# Altium schematic symbol library kmilo17pet-LT_PMIC_LT.SchLib: 2252 symbols (part 74 of 124)
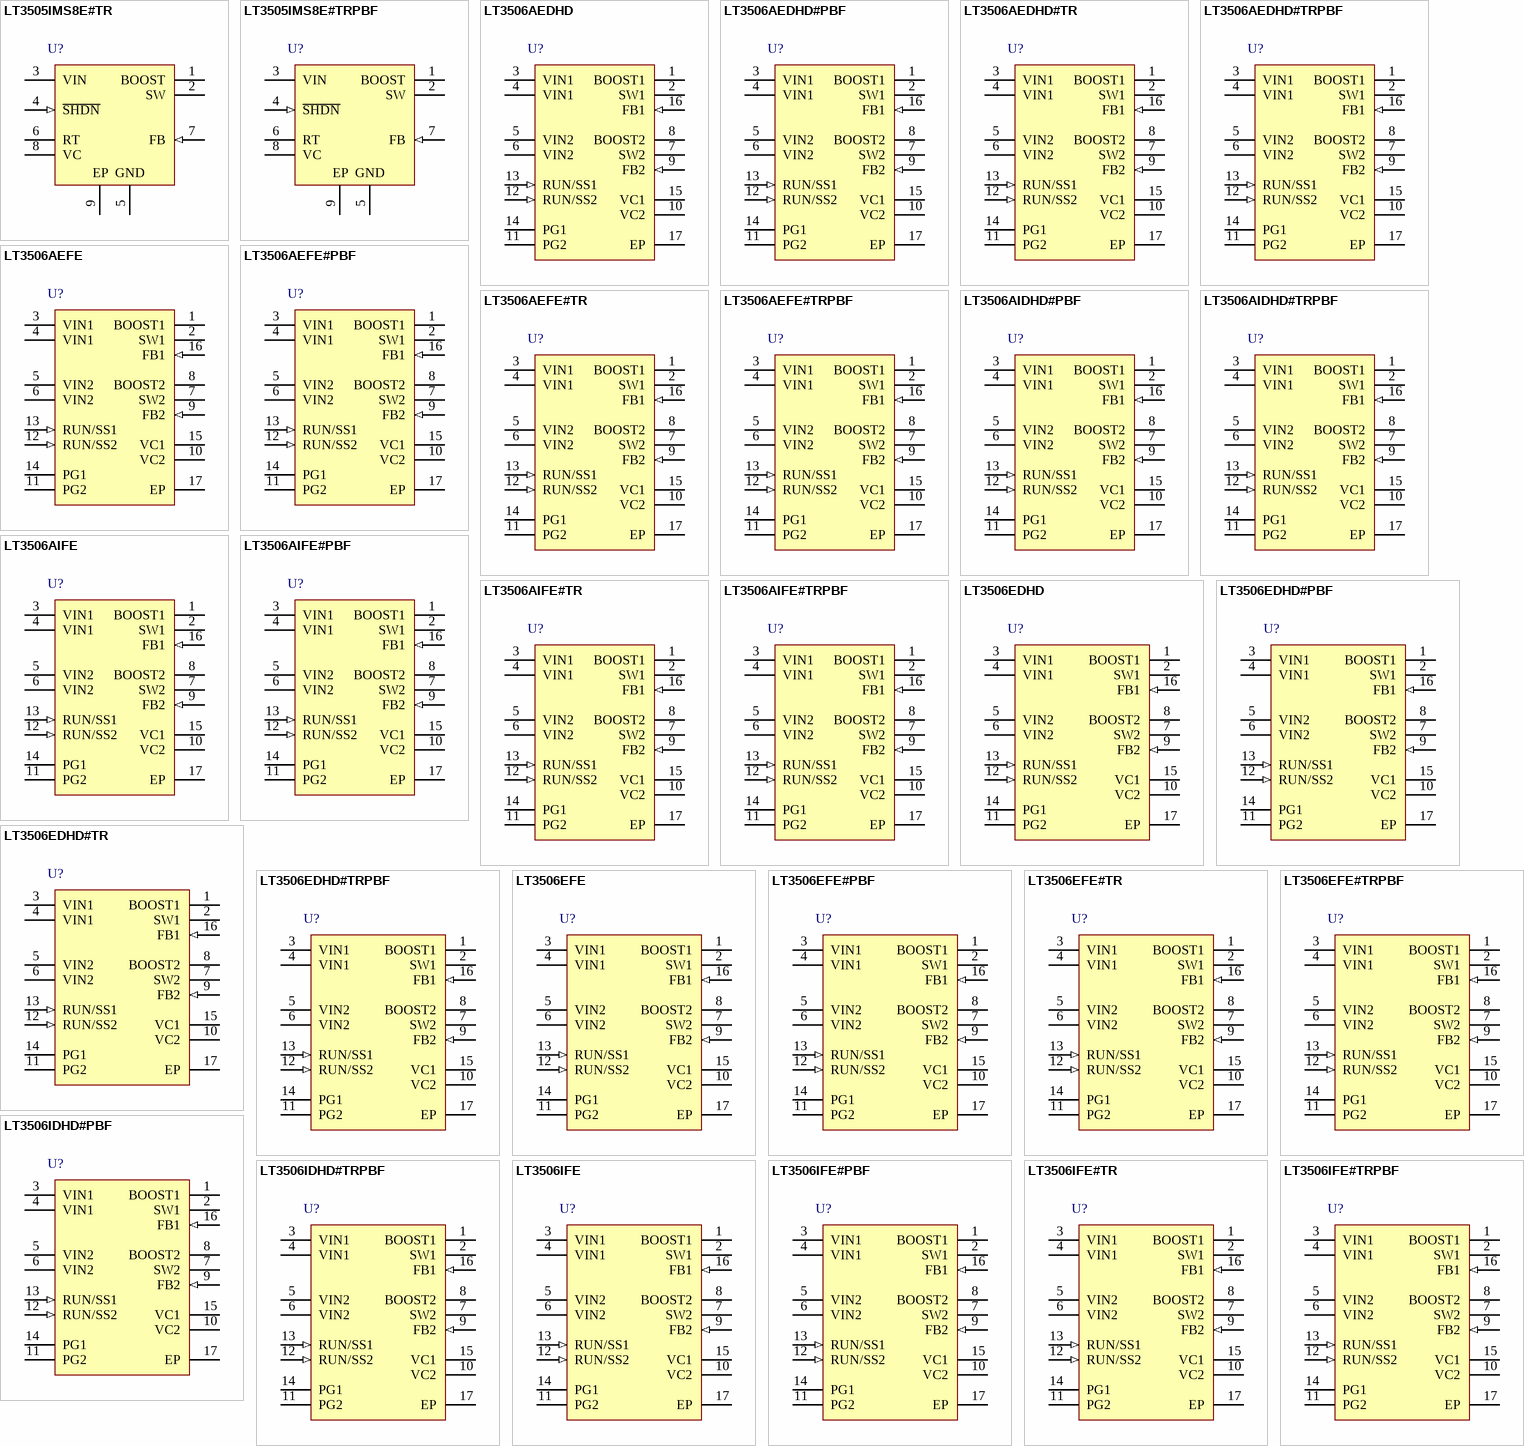
[diagram p144: symbols LT3505IMS8E#TR to LT3506IFE#TRPBF]

## LT3506AEFE#PBF
designator U?
Dual Monolithic 1.6 A Step-Down Switching Regulator, 16-pin SOP (FE-16-EPV-BA), -40 to 85 degC, Pb-Free; Manufacturer: Linear Technology; PartNumber: LT3506AEFE#PBF; Number of Outputs: 2; PackageReference: FE-16; PackageDescription: 16-Pin Plastic TSSOP, Body 5 x 4.4 mm, Pitch 0.65 mm; Supplier 1: Digi-Key; Supplier Part Number 1: LT3506AEFE#PBF-ND; RoHS: TRUE
footprint LT-FE-16-EPV-BA_N (SOP, 16-Leads, Body 5x4.4mm, Pitch 0.65mm, Thermal Pad 2.74x2.74mm, IPC Medium Density)
footprint LT-FE-16-EPV-BA_L (SOP, 16-Leads, Body 5x4.4mm, Pitch 0.65mm, Thermal Pad 2.74x2.74mm, IPC High Density)
footprint LT-FE-16-EPV-BA_M (SOP, 16-Leads, Body 5x4.4mm, Pitch 0.65mm, Thermal Pad 2.74x2.74mm, IPC Low Density)
pins: 1 BOOST1 "The BOOST pins are used to provide drive voltages, higher than the input voltage, to the internal bipolar NPN power switches. Tie through a diode from VOUT or from VIN.", 2 SW1 (power) "The SW pins are the outputs of the internal power switches. Connect these pins to the inductors, catch diodes and boost capacitors.", 3 VIN1 (power) "The VIN1 pins supply current to the LT3506’s internal regulator and to the internal power switch connected to SW1. These pins must be locally bypassed.", 4 VIN1 (power) "The VIN1 pins supply current to the LT3506’s internal regulator and to the internal power switch connected to SW1. These pins must be locally bypassed.", 5 VIN2 (power) "The VIN2 pins supply current to the internal power switch connected to SW2 and must be locally bypassed. Connect these pins directly to VIN1 unless power for channel 2 is coming from a different source.", 6 VIN2 (power) "The VIN2 pins supply current to the internal power switch connected to SW2 and must be locally bypassed. Connect these pins directly to VIN1 unless power for channel 2 is coming from a different source.", 7 SW2 (power) "The SW pins are the outputs of the internal power switches. Connect these pins to the inductors, catch diodes and boost capacitors.", 8 BOOST2 "The BOOST pins are used to provide drive voltages, higher than the input voltage, to the internal bipolar NPN power switches. Tie through a diode from VOUT or from VIN.", 9 FB2 (in) "The LT3506 regulates each feedback pin to 800mV. Connect the feedback resistor divider taps to these pins.", 10 VC2 "The VC pins are the outputs of the internal error amps. The voltages on these pins control the peak switch currents. These pins are normally used to compensate the control loops, but can also be used to override the loops. (See Datasheet)", 11 PG2 (oc) "The Power Good pins are the open collector outputs of an internal comparator. PG remains low until the FB pin is within 10% of the fi nal regulation voltage. As well as indicating output regulation, the PG pins can be used (See Datasheet)", 12 RUN/SS2 (in) "The RUN/SS pins are used to shut down the individual switching regulators and the internal bias circuits. They also provide a soft-start function. To shut down either regulator, pull the RUN/SS pin to ground with an open (See Datasheet)", 13 RUN/SS1 (in) "The RUN/SS pins are used to shut down the individual switching regulators and the internal bias circuits. They also provide a soft-start function. To shut down either regulator, pull the RUN/SS pin to ground with an open (See Datasheet)", 14 PG1 (oc) "The Power Good pins are the open collector outputs of an internal comparator. PG remains low until the FB pin is within 10% of the fi nal regulation voltage. As well as indicating output regulation, the PG pins can be used (See Datasheet)", 15 VC1 "The VC pins are the outputs of the internal error amps. The voltages on these pins control the peak switch currents. These pins are normally used to compensate the control loops, but can also be used to override the loops. (See Datasheet)", 16 FB1 (in) "The LT3506 regulates each feedback pin to 800mV. Connect the feedback resistor divider taps to these pins.", 17 EP (power) "The Exposed Pad of the package provides both electrical contact to ground and good thermal contact to the printed circuit board. The Exposed Pad must be soldered to the circuit board for proper operation."

## LT3506AEFE#TR
designator U?
Dual Monolithic 1.6 A Step-Down Switching Regulator, 16-pin SOP (FE-16-EPV-BA), -40 to 85 degC, Tape and Reel; Manufacturer: Linear Technology; PartNumber: LT3506AEFE#TR; Number of Outputs: 2; PackageReference: FE-16; PackageDescription: 16-Pin Plastic TSSOP, Body 5 x 4.4 mm, Pitch 0.65 mm; RoHS: FALSE
footprint LT-FE-16-EPV-BA_N (SOP, 16-Leads, Body 5x4.4mm, Pitch 0.65mm, Thermal Pad 2.74x2.74mm, IPC Medium Density)
footprint LT-FE-16-EPV-BA_L (SOP, 16-Leads, Body 5x4.4mm, Pitch 0.65mm, Thermal Pad 2.74x2.74mm, IPC High Density)
footprint LT-FE-16-EPV-BA_M (SOP, 16-Leads, Body 5x4.4mm, Pitch 0.65mm, Thermal Pad 2.74x2.74mm, IPC Low Density)
pins: 1 BOOST1 "The BOOST pins are used to provide drive voltages, higher than the input voltage, to the internal bipolar NPN power switches. Tie through a diode from VOUT or from VIN.", 2 SW1 (power) "The SW pins are the outputs of the internal power switches. Connect these pins to the inductors, catch diodes and boost capacitors.", 3 VIN1 (power) "The VIN1 pins supply current to the LT3506’s internal regulator and to the internal power switch connected to SW1. These pins must be locally bypassed.", 4 VIN1 (power) "The VIN1 pins supply current to the LT3506’s internal regulator and to the internal power switch connected to SW1. These pins must be locally bypassed.", 5 VIN2 (power) "The VIN2 pins supply current to the internal power switch connected to SW2 and must be locally bypassed. Connect these pins directly to VIN1 unless power for channel 2 is coming from a different source.", 6 VIN2 (power) "The VIN2 pins supply current to the internal power switch connected to SW2 and must be locally bypassed. Connect these pins directly to VIN1 unless power for channel 2 is coming from a different source.", 7 SW2 (power) "The SW pins are the outputs of the internal power switches. Connect these pins to the inductors, catch diodes and boost capacitors.", 8 BOOST2 "The BOOST pins are used to provide drive voltages, higher than the input voltage, to the internal bipolar NPN power switches. Tie through a diode from VOUT or from VIN.", 9 FB2 (in) "The LT3506 regulates each feedback pin to 800mV. Connect the feedback resistor divider taps to these pins.", 10 VC2 "The VC pins are the outputs of the internal error amps. The voltages on these pins control the peak switch currents. These pins are normally used to compensate the control loops, but can also be used to override the loops. (See Datasheet)", 11 PG2 (oc) "The Power Good pins are the open collector outputs of an internal comparator. PG remains low until the FB pin is within 10% of the fi nal regulation voltage. As well as indicating output regulation, the PG pins can be used (See Datasheet)", 12 RUN/SS2 (in) "The RUN/SS pins are used to shut down the individual switching regulators and the internal bias circuits. They also provide a soft-start function. To shut down either regulator, pull the RUN/SS pin to ground with an open (See Datasheet)", 13 RUN/SS1 (in) "The RUN/SS pins are used to shut down the individual switching regulators and the internal bias circuits. They also provide a soft-start function. To shut down either regulator, pull the RUN/SS pin to ground with an open (See Datasheet)", 14 PG1 (oc) "The Power Good pins are the open collector outputs of an internal comparator. PG remains low until the FB pin is within 10% of the fi nal regulation voltage. As well as indicating output regulation, the PG pins can be used (See Datasheet)", 15 VC1 "The VC pins are the outputs of the internal error amps. The voltages on these pins control the peak switch currents. These pins are normally used to compensate the control loops, but can also be used to override the loops. (See Datasheet)", 16 FB1 (in) "The LT3506 regulates each feedback pin to 800mV. Connect the feedback resistor divider taps to these pins.", 17 EP (power) "The Exposed Pad of the package provides both electrical contact to ground and good thermal contact to the printed circuit board. The Exposed Pad must be soldered to the circuit board for proper operation."

## LT3506AEFE#TRPBF
designator U?
Dual Monolithic 1.6 A Step-Down Switching Regulator, 16-pin SOP (FE-16-EPV-BA), -40 to 85 degC, Pb-Free, Tape and Reel; Manufacturer: Linear Technology; PartNumber: LT3506AEFE#TRPBF; Number of Outputs: 2; PackageReference: FE-16; PackageDescription: 16-Pin Plastic TSSOP, Body 5 x 4.4 mm, Pitch 0.65 mm; Supplier 1: Digi-Key; Supplier Part Number 1: LT3506AEFE#TRPBF-ND; RoHS: TRUE
footprint LT-FE-16-EPV-BA_N (SOP, 16-Leads, Body 5x4.4mm, Pitch 0.65mm, Thermal Pad 2.74x2.74mm, IPC Medium Density)
footprint LT-FE-16-EPV-BA_L (SOP, 16-Leads, Body 5x4.4mm, Pitch 0.65mm, Thermal Pad 2.74x2.74mm, IPC High Density)
footprint LT-FE-16-EPV-BA_M (SOP, 16-Leads, Body 5x4.4mm, Pitch 0.65mm, Thermal Pad 2.74x2.74mm, IPC Low Density)
pins: 1 BOOST1 "The BOOST pins are used to provide drive voltages, higher than the input voltage, to the internal bipolar NPN power switches. Tie through a diode from VOUT or from VIN.", 2 SW1 (power) "The SW pins are the outputs of the internal power switches. Connect these pins to the inductors, catch diodes and boost capacitors.", 3 VIN1 (power) "The VIN1 pins supply current to the LT3506’s internal regulator and to the internal power switch connected to SW1. These pins must be locally bypassed.", 4 VIN1 (power) "The VIN1 pins supply current to the LT3506’s internal regulator and to the internal power switch connected to SW1. These pins must be locally bypassed.", 5 VIN2 (power) "The VIN2 pins supply current to the internal power switch connected to SW2 and must be locally bypassed. Connect these pins directly to VIN1 unless power for channel 2 is coming from a different source.", 6 VIN2 (power) "The VIN2 pins supply current to the internal power switch connected to SW2 and must be locally bypassed. Connect these pins directly to VIN1 unless power for channel 2 is coming from a different source.", 7 SW2 (power) "The SW pins are the outputs of the internal power switches. Connect these pins to the inductors, catch diodes and boost capacitors.", 8 BOOST2 "The BOOST pins are used to provide drive voltages, higher than the input voltage, to the internal bipolar NPN power switches. Tie through a diode from VOUT or from VIN.", 9 FB2 (in) "The LT3506 regulates each feedback pin to 800mV. Connect the feedback resistor divider taps to these pins.", 10 VC2 "The VC pins are the outputs of the internal error amps. The voltages on these pins control the peak switch currents. These pins are normally used to compensate the control loops, but can also be used to override the loops. (See Datasheet)", 11 PG2 (oc) "The Power Good pins are the open collector outputs of an internal comparator. PG remains low until the FB pin is within 10% of the fi nal regulation voltage. As well as indicating output regulation, the PG pins can be used (See Datasheet)", 12 RUN/SS2 (in) "The RUN/SS pins are used to shut down the individual switching regulators and the internal bias circuits. They also provide a soft-start function. To shut down either regulator, pull the RUN/SS pin to ground with an open (See Datasheet)", 13 RUN/SS1 (in) "The RUN/SS pins are used to shut down the individual switching regulators and the internal bias circuits. They also provide a soft-start function. To shut down either regulator, pull the RUN/SS pin to ground with an open (See Datasheet)", 14 PG1 (oc) "The Power Good pins are the open collector outputs of an internal comparator. PG remains low until the FB pin is within 10% of the fi nal regulation voltage. As well as indicating output regulation, the PG pins can be used (See Datasheet)", 15 VC1 "The VC pins are the outputs of the internal error amps. The voltages on these pins control the peak switch currents. These pins are normally used to compensate the control loops, but can also be used to override the loops. (See Datasheet)", 16 FB1 (in) "The LT3506 regulates each feedback pin to 800mV. Connect the feedback resistor divider taps to these pins.", 17 EP (power) "The Exposed Pad of the package provides both electrical contact to ground and good thermal contact to the printed circuit board. The Exposed Pad must be soldered to the circuit board for proper operation."

## LT3506AIDHD#PBF
designator U?
Dual Monolithic 1.6 A Step-Down Switching Regulator, 16-pin SON (DHD-16), -40 to 125 degC, Pb-Free; Manufacturer: Linear Technology; PartNumber: LT3506AIDHD#PBF; Number of Outputs: 2; PackageReference: DHD-16; PackageDescription: 16-Pin Plastic DFN, Body 5 x 4 mm, Pitch 0.5 mm; Supplier 1: Digi-Key; Supplier Part Number 1: LT3506AIDHD#PBF-ND; RoHS: TRUE
footprint LT-DHD-16_V (SON, 16-Leads, Body 5x4mm, Pitch 0.5mm, Thermal Pad 4.34x2.44mm)
pins: 1 BOOST1 "The BOOST pins are used to provide drive voltages, higher than the input voltage, to the internal bipolar NPN power switches. Tie through a diode from VOUT or from VIN.", 2 SW1 (power) "The SW pins are the outputs of the internal power switches. Connect these pins to the inductors, catch diodes and boost capacitors.", 3 VIN1 (power) "The VIN1 pins supply current to the LT3506’s internal regulator and to the internal power switch connected to SW1. These pins must be locally bypassed.", 4 VIN1 (power) "The VIN1 pins supply current to the LT3506’s internal regulator and to the internal power switch connected to SW1. These pins must be locally bypassed.", 5 VIN2 (power) "The VIN2 pins supply current to the internal power switch connected to SW2 and must be locally bypassed. Connect these pins directly to VIN1 unless power for channel 2 is coming from a different source.", 6 VIN2 (power) "The VIN2 pins supply current to the internal power switch connected to SW2 and must be locally bypassed. Connect these pins directly to VIN1 unless power for channel 2 is coming from a different source.", 7 SW2 (power) "The SW pins are the outputs of the internal power switches. Connect these pins to the inductors, catch diodes and boost capacitors.", 8 BOOST2 "The BOOST pins are used to provide drive voltages, higher than the input voltage, to the internal bipolar NPN power switches. Tie through a diode from VOUT or from VIN.", 9 FB2 (in) "The LT3506 regulates each feedback pin to 800mV. Connect the feedback resistor divider taps to these pins.", 10 VC2 "The VC pins are the outputs of the internal error amps. The voltages on these pins control the peak switch currents. These pins are normally used to compensate the control loops, but can also be used to override the loops. (See Datasheet)", 11 PG2 (oc) "The Power Good pins are the open collector outputs of an internal comparator. PG remains low until the FB pin is within 10% of the fi nal regulation voltage. As well as indicating output regulation, the PG pins can be used (See Datasheet)", 12 RUN/SS2 (in) "The RUN/SS pins are used to shut down the individual switching regulators and the internal bias circuits. They also provide a soft-start function. To shut down either regulator, pull the RUN/SS pin to ground with an open (See Datasheet)", 13 RUN/SS1 (in) "The RUN/SS pins are used to shut down the individual switching regulators and the internal bias circuits. They also provide a soft-start function. To shut down either regulator, pull the RUN/SS pin to ground with an open (See Datasheet)", 14 PG1 (oc) "The Power Good pins are the open collector outputs of an internal comparator. PG remains low until the FB pin is within 10% of the fi nal regulation voltage. As well as indicating output regulation, the PG pins can be used (See Datasheet)", 15 VC1 "The VC pins are the outputs of the internal error amps. The voltages on these pins control the peak switch currents. These pins are normally used to compensate the control loops, but can also be used to override the loops. (See Datasheet)", 16 FB1 (in) "The LT3506 regulates each feedback pin to 800mV. Connect the feedback resistor divider taps to these pins.", 17 EP (power) "The Exposed Pad of the package provides both electrical contact to ground and good thermal contact to the printed circuit board. The Exposed Pad must be soldered to the circuit board for proper operation."

## LT3506AIDHD#TRPBF
designator U?
Dual Monolithic 1.6 A Step-Down Switching Regulator, 16-pin SON (DHD-16), -40 to 125 degC, Pb-Free, Tape and Reel; Manufacturer: Linear Technology; PartNumber: LT3506AIDHD#TRPBF; Number of Outputs: 2; PackageReference: DHD-16; PackageDescription: 16-Pin Plastic DFN, Body 5 x 4 mm, Pitch 0.5 mm; Supplier 1: Digi-Key; Supplier Part Number 1: LT3506AIDHD#TRPBF-ND; RoHS: TRUE
footprint LT-DHD-16_V (SON, 16-Leads, Body 5x4mm, Pitch 0.5mm, Thermal Pad 4.34x2.44mm)
pins: 1 BOOST1 "The BOOST pins are used to provide drive voltages, higher than the input voltage, to the internal bipolar NPN power switches. Tie through a diode from VOUT or from VIN.", 2 SW1 (power) "The SW pins are the outputs of the internal power switches. Connect these pins to the inductors, catch diodes and boost capacitors.", 3 VIN1 (power) "The VIN1 pins supply current to the LT3506’s internal regulator and to the internal power switch connected to SW1. These pins must be locally bypassed.", 4 VIN1 (power) "The VIN1 pins supply current to the LT3506’s internal regulator and to the internal power switch connected to SW1. These pins must be locally bypassed.", 5 VIN2 (power) "The VIN2 pins supply current to the internal power switch connected to SW2 and must be locally bypassed. Connect these pins directly to VIN1 unless power for channel 2 is coming from a different source.", 6 VIN2 (power) "The VIN2 pins supply current to the internal power switch connected to SW2 and must be locally bypassed. Connect these pins directly to VIN1 unless power for channel 2 is coming from a different source.", 7 SW2 (power) "The SW pins are the outputs of the internal power switches. Connect these pins to the inductors, catch diodes and boost capacitors.", 8 BOOST2 "The BOOST pins are used to provide drive voltages, higher than the input voltage, to the internal bipolar NPN power switches. Tie through a diode from VOUT or from VIN.", 9 FB2 (in) "The LT3506 regulates each feedback pin to 800mV. Connect the feedback resistor divider taps to these pins.", 10 VC2 "The VC pins are the outputs of the internal error amps. The voltages on these pins control the peak switch currents. These pins are normally used to compensate the control loops, but can also be used to override the loops. (See Datasheet)", 11 PG2 (oc) "The Power Good pins are the open collector outputs of an internal comparator. PG remains low until the FB pin is within 10% of the fi nal regulation voltage. As well as indicating output regulation, the PG pins can be used (See Datasheet)", 12 RUN/SS2 (in) "The RUN/SS pins are used to shut down the individual switching regulators and the internal bias circuits. They also provide a soft-start function. To shut down either regulator, pull the RUN/SS pin to ground with an open (See Datasheet)", 13 RUN/SS1 (in) "The RUN/SS pins are used to shut down the individual switching regulators and the internal bias circuits. They also provide a soft-start function. To shut down either regulator, pull the RUN/SS pin to ground with an open (See Datasheet)", 14 PG1 (oc) "The Power Good pins are the open collector outputs of an internal comparator. PG remains low until the FB pin is within 10% of the fi nal regulation voltage. As well as indicating output regulation, the PG pins can be used (See Datasheet)", 15 VC1 "The VC pins are the outputs of the internal error amps. The voltages on these pins control the peak switch currents. These pins are normally used to compensate the control loops, but can also be used to override the loops. (See Datasheet)", 16 FB1 (in) "The LT3506 regulates each feedback pin to 800mV. Connect the feedback resistor divider taps to these pins.", 17 EP (power) "The Exposed Pad of the package provides both electrical contact to ground and good thermal contact to the printed circuit board. The Exposed Pad must be soldered to the circuit board for proper operation."

## LT3506AIFE
designator U?
Dual Monolithic 1.6 A Step-Down Switching Regulator, 16-pin SOP (FE-16-EPV-BA), -40 to 125 degC; Manufacturer: Linear Technology; PartNumber: LT3506AIFE; Number of Outputs: 2; PackageReference: FE-16; PackageDescription: 16-Pin Plastic TSSOP, Body 5 x 4.4 mm, Pitch 0.65 mm; RoHS: FALSE
footprint LT-FE-16-EPV-BA_N (SOP, 16-Leads, Body 5x4.4mm, Pitch 0.65mm, Thermal Pad 2.74x2.74mm, IPC Medium Density)
footprint LT-FE-16-EPV-BA_L (SOP, 16-Leads, Body 5x4.4mm, Pitch 0.65mm, Thermal Pad 2.74x2.74mm, IPC High Density)
footprint LT-FE-16-EPV-BA_M (SOP, 16-Leads, Body 5x4.4mm, Pitch 0.65mm, Thermal Pad 2.74x2.74mm, IPC Low Density)
pins: 1 BOOST1 "The BOOST pins are used to provide drive voltages, higher than the input voltage, to the internal bipolar NPN power switches. Tie through a diode from VOUT or from VIN.", 2 SW1 (power) "The SW pins are the outputs of the internal power switches. Connect these pins to the inductors, catch diodes and boost capacitors.", 3 VIN1 (power) "The VIN1 pins supply current to the LT3506’s internal regulator and to the internal power switch connected to SW1. These pins must be locally bypassed.", 4 VIN1 (power) "The VIN1 pins supply current to the LT3506’s internal regulator and to the internal power switch connected to SW1. These pins must be locally bypassed.", 5 VIN2 (power) "The VIN2 pins supply current to the internal power switch connected to SW2 and must be locally bypassed. Connect these pins directly to VIN1 unless power for channel 2 is coming from a different source.", 6 VIN2 (power) "The VIN2 pins supply current to the internal power switch connected to SW2 and must be locally bypassed. Connect these pins directly to VIN1 unless power for channel 2 is coming from a different source.", 7 SW2 (power) "The SW pins are the outputs of the internal power switches. Connect these pins to the inductors, catch diodes and boost capacitors.", 8 BOOST2 "The BOOST pins are used to provide drive voltages, higher than the input voltage, to the internal bipolar NPN power switches. Tie through a diode from VOUT or from VIN.", 9 FB2 (in) "The LT3506 regulates each feedback pin to 800mV. Connect the feedback resistor divider taps to these pins.", 10 VC2 "The VC pins are the outputs of the internal error amps. The voltages on these pins control the peak switch currents. These pins are normally used to compensate the control loops, but can also be used to override the loops. (See Datasheet)", 11 PG2 (oc) "The Power Good pins are the open collector outputs of an internal comparator. PG remains low until the FB pin is within 10% of the fi nal regulation voltage. As well as indicating output regulation, the PG pins can be used (See Datasheet)", 12 RUN/SS2 (in) "The RUN/SS pins are used to shut down the individual switching regulators and the internal bias circuits. They also provide a soft-start function. To shut down either regulator, pull the RUN/SS pin to ground with an open (See Datasheet)", 13 RUN/SS1 (in) "The RUN/SS pins are used to shut down the individual switching regulators and the internal bias circuits. They also provide a soft-start function. To shut down either regulator, pull the RUN/SS pin to ground with an open (See Datasheet)", 14 PG1 (oc) "The Power Good pins are the open collector outputs of an internal comparator. PG remains low until the FB pin is within 10% of the fi nal regulation voltage. As well as indicating output regulation, the PG pins can be used (See Datasheet)", 15 VC1 "The VC pins are the outputs of the internal error amps. The voltages on these pins control the peak switch currents. These pins are normally used to compensate the control loops, but can also be used to override the loops. (See Datasheet)", 16 FB1 (in) "The LT3506 regulates each feedback pin to 800mV. Connect the feedback resistor divider taps to these pins.", 17 EP (power) "The Exposed Pad of the package provides both electrical contact to ground and good thermal contact to the printed circuit board. The Exposed Pad must be soldered to the circuit board for proper operation."

## LT3506AIFE#PBF
designator U?
Dual Monolithic 1.6 A Step-Down Switching Regulator, 16-pin SOP (FE-16-EPV-BA), -40 to 125 degC, Pb-Free; Manufacturer: Linear Technology; PartNumber: LT3506AIFE#PBF; Number of Outputs: 2; PackageReference: FE-16; PackageDescription: 16-Pin Plastic TSSOP, Body 5 x 4.4 mm, Pitch 0.65 mm; Supplier 1: Digi-Key; Supplier Part Number 1: LT3506AIFE#PBF-ND; RoHS: TRUE
footprint LT-FE-16-EPV-BA_N (SOP, 16-Leads, Body 5x4.4mm, Pitch 0.65mm, Thermal Pad 2.74x2.74mm, IPC Medium Density)
footprint LT-FE-16-EPV-BA_L (SOP, 16-Leads, Body 5x4.4mm, Pitch 0.65mm, Thermal Pad 2.74x2.74mm, IPC High Density)
footprint LT-FE-16-EPV-BA_M (SOP, 16-Leads, Body 5x4.4mm, Pitch 0.65mm, Thermal Pad 2.74x2.74mm, IPC Low Density)
pins: 1 BOOST1 "The BOOST pins are used to provide drive voltages, higher than the input voltage, to the internal bipolar NPN power switches. Tie through a diode from VOUT or from VIN.", 2 SW1 (power) "The SW pins are the outputs of the internal power switches. Connect these pins to the inductors, catch diodes and boost capacitors.", 3 VIN1 (power) "The VIN1 pins supply current to the LT3506’s internal regulator and to the internal power switch connected to SW1. These pins must be locally bypassed.", 4 VIN1 (power) "The VIN1 pins supply current to the LT3506’s internal regulator and to the internal power switch connected to SW1. These pins must be locally bypassed.", 5 VIN2 (power) "The VIN2 pins supply current to the internal power switch connected to SW2 and must be locally bypassed. Connect these pins directly to VIN1 unless power for channel 2 is coming from a different source.", 6 VIN2 (power) "The VIN2 pins supply current to the internal power switch connected to SW2 and must be locally bypassed. Connect these pins directly to VIN1 unless power for channel 2 is coming from a different source.", 7 SW2 (power) "The SW pins are the outputs of the internal power switches. Connect these pins to the inductors, catch diodes and boost capacitors.", 8 BOOST2 "The BOOST pins are used to provide drive voltages, higher than the input voltage, to the internal bipolar NPN power switches. Tie through a diode from VOUT or from VIN.", 9 FB2 (in) "The LT3506 regulates each feedback pin to 800mV. Connect the feedback resistor divider taps to these pins.", 10 VC2 "The VC pins are the outputs of the internal error amps. The voltages on these pins control the peak switch currents. These pins are normally used to compensate the control loops, but can also be used to override the loops. (See Datasheet)", 11 PG2 (oc) "The Power Good pins are the open collector outputs of an internal comparator. PG remains low until the FB pin is within 10% of the fi nal regulation voltage. As well as indicating output regulation, the PG pins can be used (See Datasheet)", 12 RUN/SS2 (in) "The RUN/SS pins are used to shut down the individual switching regulators and the internal bias circuits. They also provide a soft-start function. To shut down either regulator, pull the RUN/SS pin to ground with an open (See Datasheet)", 13 RUN/SS1 (in) "The RUN/SS pins are used to shut down the individual switching regulators and the internal bias circuits. They also provide a soft-start function. To shut down either regulator, pull the RUN/SS pin to ground with an open (See Datasheet)", 14 PG1 (oc) "The Power Good pins are the open collector outputs of an internal comparator. PG remains low until the FB pin is within 10% of the fi nal regulation voltage. As well as indicating output regulation, the PG pins can be used (See Datasheet)", 15 VC1 "The VC pins are the outputs of the internal error amps. The voltages on these pins control the peak switch currents. These pins are normally used to compensate the control loops, but can also be used to override the loops. (See Datasheet)", 16 FB1 (in) "The LT3506 regulates each feedback pin to 800mV. Connect the feedback resistor divider taps to these pins.", 17 EP (power) "The Exposed Pad of the package provides both electrical contact to ground and good thermal contact to the printed circuit board. The Exposed Pad must be soldered to the circuit board for proper operation."

## LT3506AIFE#TR
designator U?
Dual Monolithic 1.6 A Step-Down Switching Regulator, 16-pin SOP (FE-16-EPV-BA), -40 to 125 degC, Tape and Reel; Manufacturer: Linear Technology; PartNumber: LT3506AIFE#TR; Number of Outputs: 2; PackageReference: FE-16; PackageDescription: 16-Pin Plastic TSSOP, Body 5 x 4.4 mm, Pitch 0.65 mm; RoHS: FALSE
footprint LT-FE-16-EPV-BA_N (SOP, 16-Leads, Body 5x4.4mm, Pitch 0.65mm, Thermal Pad 2.74x2.74mm, IPC Medium Density)
footprint LT-FE-16-EPV-BA_L (SOP, 16-Leads, Body 5x4.4mm, Pitch 0.65mm, Thermal Pad 2.74x2.74mm, IPC High Density)
footprint LT-FE-16-EPV-BA_M (SOP, 16-Leads, Body 5x4.4mm, Pitch 0.65mm, Thermal Pad 2.74x2.74mm, IPC Low Density)
pins: 1 BOOST1 "The BOOST pins are used to provide drive voltages, higher than the input voltage, to the internal bipolar NPN power switches. Tie through a diode from VOUT or from VIN.", 2 SW1 (power) "The SW pins are the outputs of the internal power switches. Connect these pins to the inductors, catch diodes and boost capacitors.", 3 VIN1 (power) "The VIN1 pins supply current to the LT3506’s internal regulator and to the internal power switch connected to SW1. These pins must be locally bypassed.", 4 VIN1 (power) "The VIN1 pins supply current to the LT3506’s internal regulator and to the internal power switch connected to SW1. These pins must be locally bypassed.", 5 VIN2 (power) "The VIN2 pins supply current to the internal power switch connected to SW2 and must be locally bypassed. Connect these pins directly to VIN1 unless power for channel 2 is coming from a different source.", 6 VIN2 (power) "The VIN2 pins supply current to the internal power switch connected to SW2 and must be locally bypassed. Connect these pins directly to VIN1 unless power for channel 2 is coming from a different source.", 7 SW2 (power) "The SW pins are the outputs of the internal power switches. Connect these pins to the inductors, catch diodes and boost capacitors.", 8 BOOST2 "The BOOST pins are used to provide drive voltages, higher than the input voltage, to the internal bipolar NPN power switches. Tie through a diode from VOUT or from VIN.", 9 FB2 (in) "The LT3506 regulates each feedback pin to 800mV. Connect the feedback resistor divider taps to these pins.", 10 VC2 "The VC pins are the outputs of the internal error amps. The voltages on these pins control the peak switch currents. These pins are normally used to compensate the control loops, but can also be used to override the loops. (See Datasheet)", 11 PG2 (oc) "The Power Good pins are the open collector outputs of an internal comparator. PG remains low until the FB pin is within 10% of the fi nal regulation voltage. As well as indicating output regulation, the PG pins can be used (See Datasheet)", 12 RUN/SS2 (in) "The RUN/SS pins are used to shut down the individual switching regulators and the internal bias circuits. They also provide a soft-start function. To shut down either regulator, pull the RUN/SS pin to ground with an open (See Datasheet)", 13 RUN/SS1 (in) "The RUN/SS pins are used to shut down the individual switching regulators and the internal bias circuits. They also provide a soft-start function. To shut down either regulator, pull the RUN/SS pin to ground with an open (See Datasheet)", 14 PG1 (oc) "The Power Good pins are the open collector outputs of an internal comparator. PG remains low until the FB pin is within 10% of the fi nal regulation voltage. As well as indicating output regulation, the PG pins can be used (See Datasheet)", 15 VC1 "The VC pins are the outputs of the internal error amps. The voltages on these pins control the peak switch currents. These pins are normally used to compensate the control loops, but can also be used to override the loops. (See Datasheet)", 16 FB1 (in) "The LT3506 regulates each feedback pin to 800mV. Connect the feedback resistor divider taps to these pins.", 17 EP (power) "The Exposed Pad of the package provides both electrical contact to ground and good thermal contact to the printed circuit board. The Exposed Pad must be soldered to the circuit board for proper operation."

## LT3506AIFE#TRPBF
designator U?
Dual Monolithic 1.6 A Step-Down Switching Regulator, 16-pin SOP (FE-16-EPV-BA), -40 to 125 degC, Pb-Free, Tape and Reel; Manufacturer: Linear Technology; PartNumber: LT3506AIFE#TRPBF; Number of Outputs: 2; PackageReference: FE-16; PackageDescription: 16-Pin Plastic TSSOP, Body 5 x 4.4 mm, Pitch 0.65 mm; Supplier 1: Digi-Key; Supplier Part Number 1: LT3506AIFE#TRPBF-ND; RoHS: TRUE
footprint LT-FE-16-EPV-BA_N (SOP, 16-Leads, Body 5x4.4mm, Pitch 0.65mm, Thermal Pad 2.74x2.74mm, IPC Medium Density)
footprint LT-FE-16-EPV-BA_L (SOP, 16-Leads, Body 5x4.4mm, Pitch 0.65mm, Thermal Pad 2.74x2.74mm, IPC High Density)
footprint LT-FE-16-EPV-BA_M (SOP, 16-Leads, Body 5x4.4mm, Pitch 0.65mm, Thermal Pad 2.74x2.74mm, IPC Low Density)
pins: 1 BOOST1 "The BOOST pins are used to provide drive voltages, higher than the input voltage, to the internal bipolar NPN power switches. Tie through a diode from VOUT or from VIN.", 2 SW1 (power) "The SW pins are the outputs of the internal power switches. Connect these pins to the inductors, catch diodes and boost capacitors.", 3 VIN1 (power) "The VIN1 pins supply current to the LT3506’s internal regulator and to the internal power switch connected to SW1. These pins must be locally bypassed.", 4 VIN1 (power) "The VIN1 pins supply current to the LT3506’s internal regulator and to the internal power switch connected to SW1. These pins must be locally bypassed.", 5 VIN2 (power) "The VIN2 pins supply current to the internal power switch connected to SW2 and must be locally bypassed. Connect these pins directly to VIN1 unless power for channel 2 is coming from a different source.", 6 VIN2 (power) "The VIN2 pins supply current to the internal power switch connected to SW2 and must be locally bypassed. Connect these pins directly to VIN1 unless power for channel 2 is coming from a different source.", 7 SW2 (power) "The SW pins are the outputs of the internal power switches. Connect these pins to the inductors, catch diodes and boost capacitors.", 8 BOOST2 "The BOOST pins are used to provide drive voltages, higher than the input voltage, to the internal bipolar NPN power switches. Tie through a diode from VOUT or from VIN.", 9 FB2 (in) "The LT3506 regulates each feedback pin to 800mV. Connect the feedback resistor divider taps to these pins.", 10 VC2 "The VC pins are the outputs of the internal error amps. The voltages on these pins control the peak switch currents. These pins are normally used to compensate the control loops, but can also be used to override the loops. (See Datasheet)", 11 PG2 (oc) "The Power Good pins are the open collector outputs of an internal comparator. PG remains low until the FB pin is within 10% of the fi nal regulation voltage. As well as indicating output regulation, the PG pins can be used (See Datasheet)", 12 RUN/SS2 (in) "The RUN/SS pins are used to shut down the individual switching regulators and the internal bias circuits. They also provide a soft-start function. To shut down either regulator, pull the RUN/SS pin to ground with an open (See Datasheet)", 13 RUN/SS1 (in) "The RUN/SS pins are used to shut down the individual switching regulators and the internal bias circuits. They also provide a soft-start function. To shut down either regulator, pull the RUN/SS pin to ground with an open (See Datasheet)", 14 PG1 (oc) "The Power Good pins are the open collector outputs of an internal comparator. PG remains low until the FB pin is within 10% of the fi nal regulation voltage. As well as indicating output regulation, the PG pins can be used (See Datasheet)", 15 VC1 "The VC pins are the outputs of the internal error amps. The voltages on these pins control the peak switch currents. These pins are normally used to compensate the control loops, but can also be used to override the loops. (See Datasheet)", 16 FB1 (in) "The LT3506 regulates each feedback pin to 800mV. Connect the feedback resistor divider taps to these pins.", 17 EP (power) "The Exposed Pad of the package provides both electrical contact to ground and good thermal contact to the printed circuit board. The Exposed Pad must be soldered to the circuit board for proper operation."

## LT3506EDHD
designator U?
Dual Monolithic 1.6 A Step-Down Switching Regulator, 16-pin SON (DHD-16), -40 to 85 degC; Manufacturer: Linear Technology; PartNumber: LT3506EDHD; Number of Outputs: 2; PackageReference: DHD-16; PackageDescription: 16-Pin Plastic DFN, Body 5 x 4 mm, Pitch 0.5 mm; RoHS: FALSE
footprint LT-DHD-16_V (SON, 16-Leads, Body 5x4mm, Pitch 0.5mm, Thermal Pad 4.34x2.44mm)
pins: 1 BOOST1 "The BOOST pins are used to provide drive voltages, higher than the input voltage, to the internal bipolar NPN power switches. Tie through a diode from VOUT or from VIN.", 2 SW1 (power) "The SW pins are the outputs of the internal power switches. Connect these pins to the inductors, catch diodes and boost capacitors.", 3 VIN1 (power) "The VIN1 pins supply current to the LT3506’s internal regulator and to the internal power switch connected to SW1. These pins must be locally bypassed.", 4 VIN1 (power) "The VIN1 pins supply current to the LT3506’s internal regulator and to the internal power switch connected to SW1. These pins must be locally bypassed.", 5 VIN2 (power) "The VIN2 pins supply current to the internal power switch connected to SW2 and must be locally bypassed. Connect these pins directly to VIN1 unless power for channel 2 is coming from a different source.", 6 VIN2 (power) "The VIN2 pins supply current to the internal power switch connected to SW2 and must be locally bypassed. Connect these pins directly to VIN1 unless power for channel 2 is coming from a different source.", 7 SW2 (power) "The SW pins are the outputs of the internal power switches. Connect these pins to the inductors, catch diodes and boost capacitors.", 8 BOOST2 "The BOOST pins are used to provide drive voltages, higher than the input voltage, to the internal bipolar NPN power switches. Tie through a diode from VOUT or from VIN.", 9 FB2 (in) "The LT3506 regulates each feedback pin to 800mV. Connect the feedback resistor divider taps to these pins.", 10 VC2 "The VC pins are the outputs of the internal error amps. The voltages on these pins control the peak switch currents. These pins are normally used to compensate the control loops, but can also be used to override the loops. (See Datasheet)", 11 PG2 (oc) "The Power Good pins are the open collector outputs of an internal comparator. PG remains low until the FB pin is within 10% of the fi nal regulation voltage. As well as indicating output regulation, the PG pins can be used (See Datasheet)", 12 RUN/SS2 (in) "The RUN/SS pins are used to shut down the individual switching regulators and the internal bias circuits. They also provide a soft-start function. To shut down either regulator, pull the RUN/SS pin to ground with an open (See Datasheet)", 13 RUN/SS1 (in) "The RUN/SS pins are used to shut down the individual switching regulators and the internal bias circuits. They also provide a soft-start function. To shut down either regulator, pull the RUN/SS pin to ground with an open (See Datasheet)", 14 PG1 (oc) "The Power Good pins are the open collector outputs of an internal comparator. PG remains low until the FB pin is within 10% of the fi nal regulation voltage. As well as indicating output regulation, the PG pins can be used (See Datasheet)", 15 VC1 "The VC pins are the outputs of the internal error amps. The voltages on these pins control the peak switch currents. These pins are normally used to compensate the control loops, but can also be used to override the loops. (See Datasheet)", 16 FB1 (in) "The LT3506 regulates each feedback pin to 800mV. Connect the feedback resistor divider taps to these pins.", 17 EP (power) "The Exposed Pad of the package provides both electrical contact to ground and good thermal contact to the printed circuit board. The Exposed Pad must be soldered to the circuit board for proper operation."

## LT3506EDHD#PBF
designator U?
Dual Monolithic 1.6 A Step-Down Switching Regulator, 16-pin SON (DHD-16), -40 to 85 degC, Pb-Free; Manufacturer: Linear Technology; PartNumber: LT3506EDHD#PBF; Number of Outputs: 2; PackageReference: DHD-16; PackageDescription: 16-Pin Plastic DFN, Body 5 x 4 mm, Pitch 0.5 mm; Supplier 1: Digi-Key; Supplier Part Number 1: LT3506EDHD#PBF-ND; RoHS: TRUE
footprint LT-DHD-16_V (SON, 16-Leads, Body 5x4mm, Pitch 0.5mm, Thermal Pad 4.34x2.44mm)
pins: 1 BOOST1 "The BOOST pins are used to provide drive voltages, higher than the input voltage, to the internal bipolar NPN power switches. Tie through a diode from VOUT or from VIN.", 2 SW1 (power) "The SW pins are the outputs of the internal power switches. Connect these pins to the inductors, catch diodes and boost capacitors.", 3 VIN1 (power) "The VIN1 pins supply current to the LT3506’s internal regulator and to the internal power switch connected to SW1. These pins must be locally bypassed.", 4 VIN1 (power) "The VIN1 pins supply current to the LT3506’s internal regulator and to the internal power switch connected to SW1. These pins must be locally bypassed.", 5 VIN2 (power) "The VIN2 pins supply current to the internal power switch connected to SW2 and must be locally bypassed. Connect these pins directly to VIN1 unless power for channel 2 is coming from a different source.", 6 VIN2 (power) "The VIN2 pins supply current to the internal power switch connected to SW2 and must be locally bypassed. Connect these pins directly to VIN1 unless power for channel 2 is coming from a different source.", 7 SW2 (power) "The SW pins are the outputs of the internal power switches. Connect these pins to the inductors, catch diodes and boost capacitors.", 8 BOOST2 "The BOOST pins are used to provide drive voltages, higher than the input voltage, to the internal bipolar NPN power switches. Tie through a diode from VOUT or from VIN.", 9 FB2 (in) "The LT3506 regulates each feedback pin to 800mV. Connect the feedback resistor divider taps to these pins.", 10 VC2 "The VC pins are the outputs of the internal error amps. The voltages on these pins control the peak switch currents. These pins are normally used to compensate the control loops, but can also be used to override the loops. (See Datasheet)", 11 PG2 (oc) "The Power Good pins are the open collector outputs of an internal comparator. PG remains low until the FB pin is within 10% of the fi nal regulation voltage. As well as indicating output regulation, the PG pins can be used (See Datasheet)", 12 RUN/SS2 (in) "The RUN/SS pins are used to shut down the individual switching regulators and the internal bias circuits. They also provide a soft-start function. To shut down either regulator, pull the RUN/SS pin to ground with an open (See Datasheet)", 13 RUN/SS1 (in) "The RUN/SS pins are used to shut down the individual switching regulators and the internal bias circuits. They also provide a soft-start function. To shut down either regulator, pull the RUN/SS pin to ground with an open (See Datasheet)", 14 PG1 (oc) "The Power Good pins are the open collector outputs of an internal comparator. PG remains low until the FB pin is within 10% of the fi nal regulation voltage. As well as indicating output regulation, the PG pins can be used (See Datasheet)", 15 VC1 "The VC pins are the outputs of the internal error amps. The voltages on these pins control the peak switch currents. These pins are normally used to compensate the control loops, but can also be used to override the loops. (See Datasheet)", 16 FB1 (in) "The LT3506 regulates each feedback pin to 800mV. Connect the feedback resistor divider taps to these pins.", 17 EP (power) "The Exposed Pad of the package provides both electrical contact to ground and good thermal contact to the printed circuit board. The Exposed Pad must be soldered to the circuit board for proper operation."

## LT3506EDHD#TR
designator U?
Dual Monolithic 1.6 A Step-Down Switching Regulator, 16-pin SON (DHD-16), -40 to 85 degC, Tape and Reel; Manufacturer: Linear Technology; PartNumber: LT3506EDHD#TR; Number of Outputs: 2; PackageReference: DHD-16; PackageDescription: 16-Pin Plastic DFN, Body 5 x 4 mm, Pitch 0.5 mm; RoHS: FALSE
footprint LT-DHD-16_V (SON, 16-Leads, Body 5x4mm, Pitch 0.5mm, Thermal Pad 4.34x2.44mm)
pins: 1 BOOST1 "The BOOST pins are used to provide drive voltages, higher than the input voltage, to the internal bipolar NPN power switches. Tie through a diode from VOUT or from VIN.", 2 SW1 (power) "The SW pins are the outputs of the internal power switches. Connect these pins to the inductors, catch diodes and boost capacitors.", 3 VIN1 (power) "The VIN1 pins supply current to the LT3506’s internal regulator and to the internal power switch connected to SW1. These pins must be locally bypassed.", 4 VIN1 (power) "The VIN1 pins supply current to the LT3506’s internal regulator and to the internal power switch connected to SW1. These pins must be locally bypassed.", 5 VIN2 (power) "The VIN2 pins supply current to the internal power switch connected to SW2 and must be locally bypassed. Connect these pins directly to VIN1 unless power for channel 2 is coming from a different source.", 6 VIN2 (power) "The VIN2 pins supply current to the internal power switch connected to SW2 and must be locally bypassed. Connect these pins directly to VIN1 unless power for channel 2 is coming from a different source.", 7 SW2 (power) "The SW pins are the outputs of the internal power switches. Connect these pins to the inductors, catch diodes and boost capacitors.", 8 BOOST2 "The BOOST pins are used to provide drive voltages, higher than the input voltage, to the internal bipolar NPN power switches. Tie through a diode from VOUT or from VIN.", 9 FB2 (in) "The LT3506 regulates each feedback pin to 800mV. Connect the feedback resistor divider taps to these pins.", 10 VC2 "The VC pins are the outputs of the internal error amps. The voltages on these pins control the peak switch currents. These pins are normally used to compensate the control loops, but can also be used to override the loops. (See Datasheet)", 11 PG2 (oc) "The Power Good pins are the open collector outputs of an internal comparator. PG remains low until the FB pin is within 10% of the fi nal regulation voltage. As well as indicating output regulation, the PG pins can be used (See Datasheet)", 12 RUN/SS2 (in) "The RUN/SS pins are used to shut down the individual switching regulators and the internal bias circuits. They also provide a soft-start function. To shut down either regulator, pull the RUN/SS pin to ground with an open (See Datasheet)", 13 RUN/SS1 (in) "The RUN/SS pins are used to shut down the individual switching regulators and the internal bias circuits. They also provide a soft-start function. To shut down either regulator, pull the RUN/SS pin to ground with an open (See Datasheet)", 14 PG1 (oc) "The Power Good pins are the open collector outputs of an internal comparator. PG remains low until the FB pin is within 10% of the fi nal regulation voltage. As well as indicating output regulation, the PG pins can be used (See Datasheet)", 15 VC1 "The VC pins are the outputs of the internal error amps. The voltages on these pins control the peak switch currents. These pins are normally used to compensate the control loops, but can also be used to override the loops. (See Datasheet)", 16 FB1 (in) "The LT3506 regulates each feedback pin to 800mV. Connect the feedback resistor divider taps to these pins.", 17 EP (power) "The Exposed Pad of the package provides both electrical contact to ground and good thermal contact to the printed circuit board. The Exposed Pad must be soldered to the circuit board for proper operation."